# Altium footprint library RCL.PcbLib: 18 footprints (part 2 of 2)
Each footprint in its own frame and in the unit in brackets; x right, y up, seen from the top. Pads: shape width x height; smd on the part's side, far side on the other; paste and mask are expansions set on the pad; w line width, h text height; cw(c..) or ccw(c..) is an arc to the next point about the centre after c.
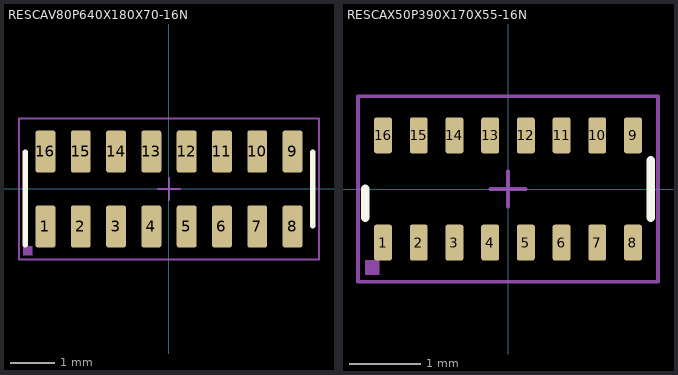
[diagram p1: the footprints below, top view; thin cyan lines are the x and y axes]

## RESCAV80P640X180X70-16N [mm]
height 0.7
pads (16):
  rrect23% 0.45x0.95 smd: 1(-2.8,-0.85) 2(-2,-0.85) 3(-1.2,-0.85) 4(-0.4,-0.85) 5(0.4,-0.85) 6(1.2,-0.85) 7(2,-0.85) 8(2.8,-0.85) 9(2.8,0.85) 10(2,0.85) 11(1.2,0.85) 12(0.4,0.85) 13(-0.4,0.85) 14(-1.2,0.85) 15(-2,0.85) 16(-2.8,0.85)
Top Overlay:
  lines w0.12: -3.26,-1.27 -3.26,0.84 ; 3.26,-0.84 3.26,0.84
15. Courtyard TOP:
  lines w0.05: -0.25,0 0.25,0 ; 0,-0.25 0,0.25 ; -3.4,-1.6 -3.4,1.6 3.4,1.6 3.4,-1.6 -3.4,-1.6
18. Assembly TOP:
  region: -3.3,-1.5 -3.3,-1.3 -3.1,-1.3 -3.1,-1.5
  lines w0.05: -3.4,-1.6 -3.4,1.6 3.4,1.6 3.4,-1.6 -3.4,-1.6
  text ".designator" at -2.725,-0.75 h1.5
3D body: height 0.7, standoff 0, extent -3.2,-0.9 3.2,0.9

## RESCAX50P390X170X55-16N [mm]
height 55
pads (16):
  rrect23% 0.25x0.5 smd: 1(-1.75,-0.75) 2(-1.25,-0.75) 3(-0.75,-0.75) 4(-0.25,-0.75) 5(0.25,-0.75) 6(0.75,-0.75) 7(1.25,-0.75) 8(1.75,-0.75) 9(1.75,0.75) 10(1.25,0.75) 11(0.75,0.75) 12(0.25,0.75) 13(-0.25,0.75) 14(-0.75,0.75) 15(-1.25,0.75) 16(-1.75,0.75)
Top Overlay:
  lines w0.12: -2,-0.4 -2,0 ; 2,-0.4 2,0.4
15. Courtyard TOP:
  lines w0.05: -0.25,0 0.25,0 ; 0,-0.25 0,0.25 ; -2.1,-1.3 -2.1,1.3 2.1,1.3 2.1,-1.3 -2.1,-1.3
18. Assembly TOP:
  region: -2,-1.2 -2,-1 -1.8,-1 -1.8,-1.2
  lines w0.05: -2.1,-1.3 2.1,-1.3 2.1,1.3 -2.1,1.3 -2.1,-1.3
  text ".designator" at -1.8,-0.5 h1
3D body: height 0.55, standoff 0, extent -1.95,-0.85 1.95,0.85